# Altium footprint library chips.PcbLib: 36 footprints (part 2 of 3)
Each footprint in its own frame and in the unit in brackets; x right, y up, seen from the top. Pads: shape width x height; smd on the part's side, far side on the other; paste and mask are expansions set on the pad; w line width, h text height; cw(c..) or ccw(c..) is an arc to the next point about the centre after c.
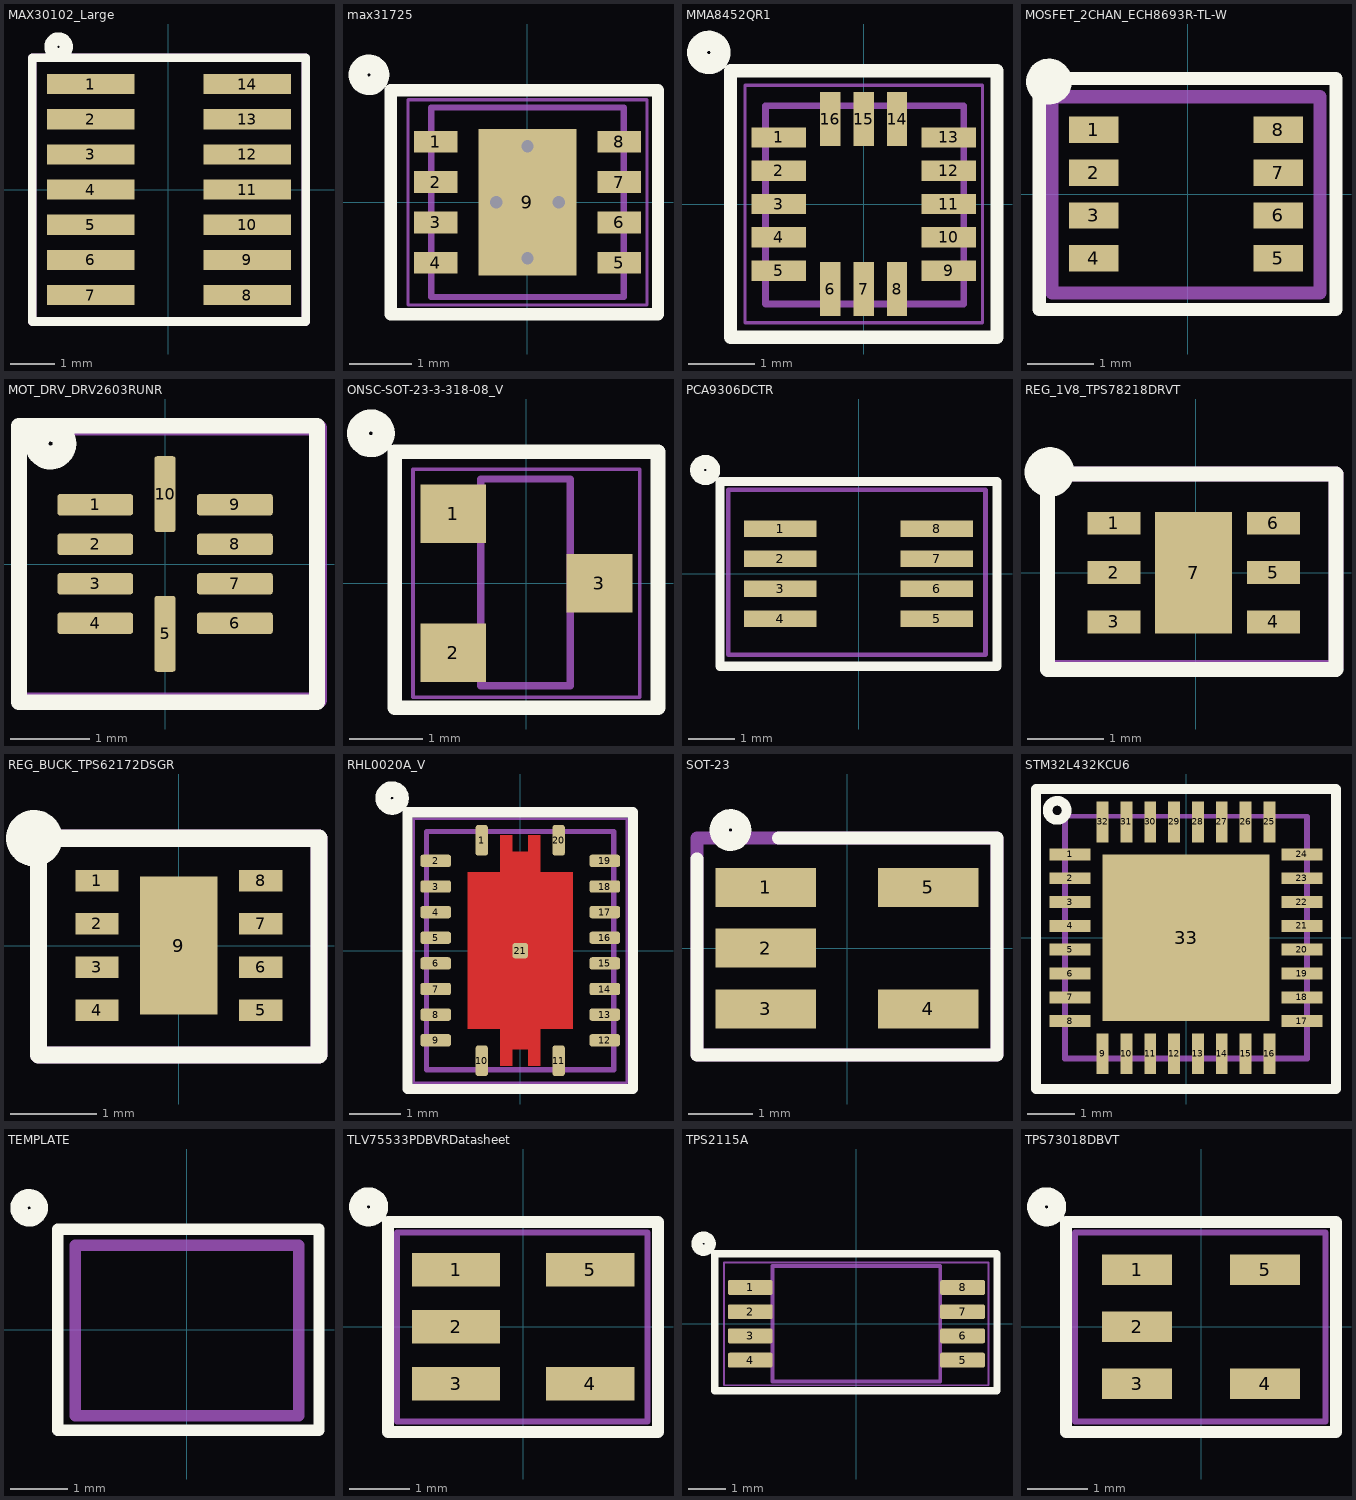
[diagram p1: the footprints below, top view; thin cyan lines are the x and y axes]

## MAX30102_Large [mm] "Optical HR / SPO2 sensor"
pads (14):
  rect 2x0.457 smd paste+0 mask+0: 1(-1.769,2.4) 2(-1.769,1.6) 3(-1.769,0.8) 4(-1.769,0) 5(-1.769,-0.8) 6(-1.769,-1.6) 7(-1.769,-2.4) 8(1.794,-2.4) 9(1.794,-1.6) 10(1.794,-0.8) 11(1.794,0) 12(1.794,0.8) 13(1.794,1.6) 14(1.794,2.4)
Top Overlay:
  circle w0.3: c-2.5,3.25 r0.177
  lines w0.2: -3.1,-3 3.125,-3 3.125,3 -3.1,3 -3.1,-3
Top Assembly:
  lines w0.2: -3.1,-3 3.125,-3 3.125,3 -3.1,3 -3.1,-3
  text ".Designator" at 0.25,-2 h0.89
3D body "21-1048F_F143A51.step": height 1.65, standoff 0, extent -1.575,-2.794 1.575,2.794

## max31725 [mm] "SON, 8-Leads, Body 3x3 mm, Pitch 0.65mm, Thermal Pad 2.3x1.5mm"
height 0.8
pads (9):
  rect 0.7x0.35 smd: 1(-1.475,0.975) 2(-1.475,0.325) 3(-1.475,-0.325) 4(-1.475,-0.975) 5(1.475,-0.975) 6(1.475,-0.325) 7(1.475,0.325) 8(1.475,0.975)
  rect 1.58x2.35 smd: 9(0,0)
via 0.5,0 diameter 0.5 hole 0.2
via -0.5,0 diameter 0.5 hole 0.2
via 0,-0.9 diameter 0.5 hole 0.2
via 0,0.9 diameter 0.5 hole 0.2
Top Overlay:
  circle w0.3: c-2.55,2.05 r0.177
  lines w0.2: -2.2,-1.8 -2.2,1.8 2.1,1.8 2.1,-1.8 -2.2,-1.8
Top 3D Body:
  lines w0.05: -1.925,-1.65 1.925,-1.65 1.925,1.65 -1.925,1.65 -1.925,-1.65
Top Assembly:
  lines w0.1: -1.55,-1.525 -1.55,1.525 1.55,1.525 1.55,-1.525 -1.55,-1.525
  text ".Designator" at -1.075,-0.4 h0.89
3D body: height 0.8, standoff 0, extent -1.55,-1.55 1.55,1.55

## MMA8452QR1 [mm] "QFN, 16-Leads, Body 3x3mm, Pitch 0.5mm"
height 1
pads (16):
  rect 0.813x0.305 smd paste-0.012 mask+0.051: 1(-1.275,1) 2(-1.275,0.5) 3(-1.275,0) 4(-1.275,-0.5) 5(-1.275,-1) 9(1.275,-1) 10(1.275,-0.5) 11(1.275,0) 12(1.275,0.5) 13(1.275,1)
  rect 0.305x0.813 smd paste-0.012 mask+0.051: 6(-0.5,-1.275) 7(0,-1.275) 8(0.5,-1.275) 14(0.5,1.275) 15(0,1.275) 16(-0.5,1.275)
Top Overlay:
  circle w0.3: c-2.325,2.275 r0.177
  lines w0.2: -2,-2 2,-2 2,1.7 2,2 -2,2 -2,-2
Top 3D Body:
  lines w0.05: -1.782,-1.781 -1.782,1.782 1.781,1.782 1.781,-1.781 -1.782,-1.781
Top Assembly:
  lines w0.1: -1.475,-1.5 1.5,-1.5 1.5,1.475 -1.475,1.475 -1.475,-1.5
  text ".Designator" at -0.85,-0.425 h0.89
3D body "QFN50P300X300X100-16M.step": height 1, standoff 0, extent -1.501,-1.501 1.501,1.501

## MOSFET_2CHAN_ECH8693R-TL-W [mm] "MOSFET 2N-CH 24V 14A SOT-28"
pads (8):
  rect 0.75x0.4 smd: 1(-1.425,0.975) 2(-1.425,0.325) 3(-1.425,-0.325) 4(-1.425,-0.975) 5(1.375,-0.975) 6(1.375,-0.325) 7(1.375,0.325) 8(1.375,0.975)
Top Overlay:
  circle w0.3: c-2.102,1.705 r0.197
  lines w0.2: 2.25,-1.75 -2.25,-1.75 -2.25,1.75 2.25,1.75 2.25,-1.6 2.25,-1.725
Top Assembly:
  lines w0.2: -2.057,-1.5 2.007,-1.5 2.007,1.475 -2.057,1.475 -2.057,-1.5
  text ".Designator" at -1.325,-0.45 h0.89
3D body "SON65P230X95-8N.step": height 0.95, standoff 0, extent -1.206,-1.487 1.156,1.473

## MOT_DRV_DRV2603RUNR [mm] "IC MOTOR DRIVER 2.5V-5.2V 10QFN"
pads (10):
  rrect25% 0.96x0.27 smd: 1(-0.885,0.75) 2(-0.885,0.25) 3(-0.885,-0.25) 4(-0.885,-0.75) 6(0.885,-0.75) 7(0.885,-0.25) 8(0.885,0.25) 9(0.885,0.75)
  rrect25% 0.27x0.96 smd: 5(0,-0.885) 10(0,0.885)
Top Overlay:
  circle w0.3: c-1.45,1.525 r0.177
  lines w0.2: -1.85,-1.75 -1.85,1.75 1.925,1.75 1.925,-1.75 -1.85,-1.75
Top Assembly:
  lines w0.2: -1.85,-1.725 1.95,-1.725 1.95,1.725 -1.85,1.725 -1.85,-1.725
  text ".Designator" at -1.325,-0.45 h0.89
3D body "DRV2603RUNR--3DModel-STEP-56544.STEP": height 0.8, standoff 0, extent -1,-1 1,1

## ONSC-SOT-23-3-318-08_V [mm] "SOT23, 3-Leads, Body 2.92x1.3mm, Pitch 0.95mm"
height 1.11
pads (3):
  rect 0.9x0.8 smd: 1(-1,0.95) 2(-1,-0.95) 3(1,0)
Top Overlay:
  circle w0.3: c-2.125,2.05 r0.177
  lines w0.2: -1.8,-1.7 1.8,-1.7 1.8,1.8 -1.8,1.8 -1.8,-1.7
Top 3D Body:
  lines w0.05: -1.55,-1.56 -1.55,1.56 1.55,1.56 1.55,-1.56 -1.55,-1.56
Top Assembly:
  lines w0.1: -0.625,-1.4 -0.625,1.425 0.6,1.425 0.6,-1.4 -0.625,-1.4
  text ".Designator" at 0.2,-1.2 h0.5
3D body: height 1.11, standoff 0.01, extent -0.65,-1.46 0.65,1.46

## PCA9306DCTR [mil] "I2C level shifter"
pads (8):
  rect 61.5x14 smd paste+0 mask+0: 1(-66.75,38.39) 2(-66.75,12.8) 3(-66.75,-12.8) 4(-66.75,-38.39) 5(66.75,-38.39) 6(66.75,-12.8) 7(66.75,12.8) 8(66.75,38.39)
Top Overlay:
  circle w11.81: c-130.84,88.58 r6.96
  lines w7.87: -118.11,-78.74 -118.11,78.74 118.11,78.74 118.11,-78.74 -118.11,-78.74
Top Assembly:
  lines w3.94: -111.22,-68.9 108.27,-68.9 108.27,71.85 -111.22,71.85 -111.22,-68.9
  text ".Designator" at -88.58,-9.84 h35
3D body "User Library-TXS0102DCTR-SSOP8.step": height 41.34, standoff 0, extent -85.48,-62 83.49,62.01

## REG_1V8_TPS78218DRVT [mm] "REG LINEAR 1.8V 150MA 6SON"
pads (7):
  rect 0.7x0.3 smd paste-0.15: 1(-1.075,0.65) 2(-1.075,0) 3(-1.075,-0.65) 4(1.025,-0.65) 5(1.025,0) 6(1.025,0.65)
  rect 1.016x1.6 smd paste-0.787 mask-0.787: 7(-0.025,0)
Top Layer:
  region: -0.025,-0.8
  region: -0.025,0.8
Top Overlay:
  circle w0.3: c-1.925,1.325 r0.177
  lines w0.2: -1.95,-1.275 -1.95,1.3 1.85,1.3 1.85,-1.275 -1.95,-1.275
Top Assembly:
  lines w0.2: -1.95,-1.25 1.85,-1.25 1.85,1.3 -1.95,1.3 -1.95,-1.25
  text ".Designator" at -1.325,-0.45 h0.89
3D body "DRV0006A.stp": height 0.8, standoff 0, extent -1.008,-0.998 0.992,1.002

## REG_BUCK_TPS62172DSGR [mm] "REG BUCK 3.3V 500MA 8WSON"
pads (9):
  rect 0.5x0.25 smd paste+0 mask+0.051: 1(-0.95,0.75) 2(-0.95,0.25) 3(-0.95,-0.25) 4(-0.95,-0.75) 5(0.95,-0.75) 6(0.95,-0.25) 7(0.95,0.25) 8(0.95,0.75)
  rect 0.9x1.6 smd paste-0.45 mask+0.051: 9(0,0)
Top Overlay:
  circle w0.3: c-1.676,1.245 r0.177
  lines w0.2: -1.626,-1.27 1.626,-1.27 1.626,1.245 -1.626,1.245 -1.626,-1.27
Top Assembly:
  lines w0.2: -1.626,-1.27 -1.626,1.245 1.626,1.245 1.626,-1.27 -1.626,-1.27
  text ".Designator" at -1.016,-0.381 h0.89
3D body "DSG0008A.stp": height 0.77, standoff 0, extent -1,-1.002 1,0.998

## RHL0020A_V [mm] "QFN, 20-Leads, Body 4.5x3.5mm, Pitch 0.5mm, Thermal Pad 3.05x2.05mm, TI Recommended"
height 1
pads (21):
  rrect42% 0.24x0.6 smd: 1(-0.75,2.15) 10(-0.75,-2.15) 11(0.75,-2.15) 20(0.75,2.15)
  rrect42% 0.6x0.24 smd: 2(-1.65,1.75) 3(-1.65,1.25) 4(-1.65,0.75) 5(-1.65,0.25) 6(-1.65,-0.25) 7(-1.65,-0.75) 8(-1.65,-1.25) 9(-1.65,-1.75) 12(1.65,-1.75) 13(1.65,-1.25) 14(1.65,-0.75) 15(1.65,-0.25) 16(1.65,0.25) 17(1.65,0.75) 18(1.65,1.25) 19(1.65,1.75)
  rrect33% 0.3x0.3 smd paste-0.15 mask+0: 21(0,0)
Top Layer:
  region: 0.16,2.25 0.16,1.925 -0.16,1.925 -0.16,2.25 -0.39,2.25 -0.39,1.525 -1.025,1.525 -1.025,-1.525 -0.39,-1.525 -0.39,-2.25 -0.16,-2.25 -0.16,-1.925 0.16,-1.925 0.16,-2.25 0.39,-2.25 0.39,-1.525 1.025,-1.525 1.025,1.525 0.39,1.525 0.39,2.25
Top Overlay:
  circle w0.3: c-2.5,2.975 r0.177
  lines w0.2: -2.2,-2.7 2.2,-2.7 2.2,2.7 -2.2,2.7 -2.2,-2.7
Top Paste:
  rectangle: -0.39,-1.925 0.39,-1.628
  rectangle: -0.39,1.628 0.39,1.925
  rectangle: 0.1,0.1 1.017,1.428
  region: -0.1,1.428 -1.017,1.428 -1.017,0.1 -0.1,0.1
  region: -0.1,-0.1 -1.017,-0.1 -1.017,-1.428 -0.1,-1.428
  rectangle: 0.1,-1.428 1.017,-0.1
Top 3D Body:
  lines w0.05: -2.075,-2.575 2.075,-2.575 2.075,2.575 -2.075,2.575 -2.075,-2.575
Top Assembly:
  lines w0.1: -1.825,-2.325 1.825,-2.325 1.825,2.325 -1.825,2.325 -1.825,-2.325
  text ".Designator" at -0.6,-0.3 h0.89
3D body: height 1.01, standoff 0.5, extent -1.049,1.476 -0.451,2.074
3D body: height 1, standoff 0, extent -1.825,-2.325 1.825,2.325

## SOT-23 [mil]
pads (5):
  rect 62x24 smd paste+0 mask+0: 1(-50,37.5) 2(-50,0) 3(-50,-37.5) 4(50,-37.5) 5(50,37.5)
Top Overlay:
  circle w11.81: c-71.85,72.83 r6.96
  lines w7.87: -92.52,55.12 -92.52,-65.94 92.52,-65.94 92.52,67.91 ; -42.32,67.91 91.54,67.91
Top Assembly:
  lines w7.87: -92.52,-65.94 92.52,-65.94 92.52,67.91 -92.52,67.91 -92.52,-65.94
  text ".Designator" at -59.06,-13.78 h35
3D body "CircuitWorks-SOT-23-5.step": height 41.34, standoff -1.97, extent -48.21,-59.06 50.22,59.06

## STM32L432KCU6 [mm] "MCU STM L4  5mm"
pads (33):
  rect 0.86x0.25 smd: 1(-2.435,1.75) 2(-2.435,1.25) 3(-2.435,0.75) 4(-2.435,0.25) 5(-2.435,-0.25) 6(-2.435,-0.75) 7(-2.435,-1.25) 8(-2.435,-1.75) 17(2.435,-1.75) 18(2.435,-1.25) 19(2.435,-0.75) 20(2.435,-0.25) 21(2.435,0.25) 22(2.435,0.75) 23(2.435,1.25) 24(2.435,1.75)
  rect 0.25x0.86 smd: 9(-1.75,-2.435) 10(-1.25,-2.435) 11(-0.75,-2.435) 12(-0.25,-2.435) 13(0.25,-2.435) 14(0.75,-2.435) 15(1.25,-2.435) 16(1.75,-2.435) 25(1.75,2.435) 26(1.25,2.435) 27(0.75,2.435) 28(0.25,2.435) 29(-0.25,2.435) 30(-0.75,2.435) 31(-1.25,2.435) 32(-1.75,2.435)
  rect 3.5x3.5 smd: 33(0,0)
Top Overlay:
  circle w0.203: c-2.705,2.676 r0.2
  lines w0.203: -3.15,-3.175 -3.15,3.124 3.15,3.124 3.15,-3.175 -3.15,-3.175
Top Paste:
  region: -1.413,1.41 -0.17,1.41 -0.17,0.17 -1.413,0.17
  region: 0.17,1.41 1.41,1.41 1.41,0.17 0.17,0.17
  region: -1.412,-0.17 -0.17,-0.17 -0.17,-1.412 -1.412,-1.412
  region: 0.17,-0.17 1.41,-0.17 1.41,-1.412 0.17,-1.412
Top 3D Body:
  lines w0.05: -2.5,-2.5 -2.5,2.525 2.5,2.525 2.5,-2.5 -2.5,-2.5
Top Assembly:
  lines w0.1: -2.55,-2.55 -2.55,2.55 2.55,2.55 2.55,-2.55 -2.55,-2.55
  text ".Designator" at -1.885,0.45 h0.89
3D body "STM32L432KCU6.stp": height 0.6, standoff 0, extent -2.55,-2.575 2.55,2.525

## TEMPLATE [mm]
Top Overlay:
  circle w0.3: c-2.75,2.125 r0.177
  lines w0.2: -2.25,-1.75 -2.25,1.75 2.3,1.75 2.3,-1.75 -2.25,-1.75
Top Assembly:
  lines w0.2: -1.95,-1.5 1.95,-1.5 1.95,1.475 -1.95,1.475 -1.95,-1.5
  text ".Designator" at -1.325,-0.45 h0.89

## TLV75533PDBVRDatasheet [mil]
pads (5):
  rect 58x22 smd: 1(-44,37.4) 2(-44,0) 3(-44,-37.4) 4(44,-37.4) 5(44,37.4)
Top Overlay:
  circle w11.81: c-101.38,78.74 r6.96
  lines w7.87: 88.58,-68.9 -88.58,-68.9 -88.58,68.9 88.58,68.9 88.58,-62.99 88.58,-67.91
Top Assembly:
  lines w3.94: -82.67,-62.01 81.69,-62.01 81.69,62.01 -82.67,62.01 -82.67,-62.01
  text ".Designator" at -56.1,-13.78 h35
3D body "CircuitWorks-SOT-23-5.step": height 41.34, standoff -1.97, extent -53.15,-59.05 45.27,59.06

## TPS2115A [mm] "SOP, 8-Leads, Body 4.5x3.1mm, Pitch 0.65mm, IPC High Density"
height 1.2
pads (8):
  rrect25% 1.2x0.4 smd: 1(-2.85,0.975) 2(-2.85,0.325) 3(-2.85,-0.325) 4(-2.85,-0.975) 5(2.85,-0.975) 6(2.85,-0.325) 7(2.85,0.325) 8(2.85,0.975)
Top Overlay:
  circle w0.3: c-4.1,2.15 r0.177
  lines w0.2: -3.8,-1.8 3.775,-1.8 3.775,1.875 -3.8,1.875 -3.8,-1.8
Notes (not in Gerber):
  lines w0.05: -3.55,-1.65 3.55,-1.65 3.55,1.65 -3.55,1.65 -3.55,-1.65
Top Assembly:
  lines w0.1: -2.25,-1.55 -2.25,1.55 2.25,1.55 2.25,-1.55 -2.25,-1.55
  text ".Designator" at -1.375,-0.275 h0.8
3D body "TSSOP-8.stp": height 1.2, standoff 0, extent -3.228,-1.5 3.228,1.5

## TPS73018DBVT [mil] "IC REG LINEAR 1.8V 200MA SOT23-5"
pads (5):
  rect 46x20 smd: 1(-42,37.4) 2(-42,0) 3(-42,-37.4) 4(42,-37.4) 5(42,37.4)
Top Overlay:
  circle w11.81: c-101.38,78.74 r6.96
  lines w7.87: 88.58,-68.9 -88.58,-68.9 -88.58,68.9 88.58,68.9 88.58,-62.99 88.58,-67.91
Top Assembly:
  lines w3.94: -82.67,-62.01 81.69,-62.01 81.69,62.01 -82.67,62.01 -82.67,-62.01
  text ".Designator" at -56.1,-13.78 h35
3D body "CircuitWorks-SOT-23-5.step": height 41.34, standoff -1.97, extent -53.15,-59.05 45.27,59.06